# Altium schematic symbol library RSX068MP2STR.SchLib: 1 symbol
Pins are listed as number, name and electrical type; pins without a type are passive.

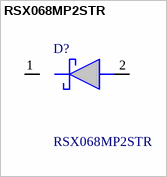
[diagram p0: symbol RSX068MP2STR]

## RSX068MP2STR
designator D?
Schottky Diodes &RSX068MP2STR Rectifiers SCHOTTKY DIODE 200V 2A; Manufacturer_Name: ROHM Semiconductor; Geometry.Height: 1.1mm; Mouser Part Number: 755-RSX068MP2STR; Mouser Price/Stock: https://www.mouser.co.uk/ProductDetail/ROHM-Semiconductor/RSX068MP2STR?qs=Y0Uzf4wQF3mHCy1rcjsvrw%3D%3D; Manufacturer_Part_Number: RSX068MP2STR; Datasheet Link: https://fscdn.rohm.com/en/products/databook/datasheet/discrete/diode/schottky_barrier/rsx068mp2str-e.pdf
footprint RSX068MP2STR
pins: 1 K, 2 A